# Altium schematic symbol library THP210DGKR.Schlib: 1 symbol
Pins are listed as number, name and electrical type; pins without a type are passive.

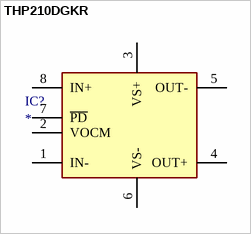
[diagram p0: symbol THP210DGKR]

## THP210DGKR
designator IC?
Fully-DifferentialAmplifier
pins: 1 IN-, 2 VOCM, 3 VS+, 4 OUT+, 5 OUT-, 6 VS-, 7 ~{PD}, 8 IN+